# EAGLE library part LTC6268 (library CostumHafiz)
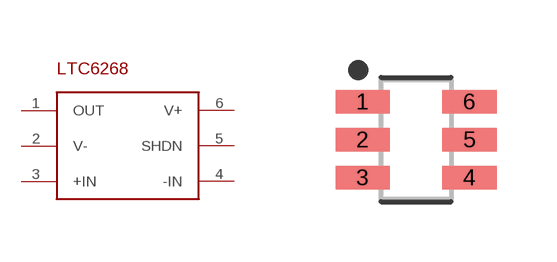
[diagram p0: symbol with the pads of SOT95P280X100-6; footprint SOT95P280X100-6]

Designator prefix -

## LTC6268  [SOT95P280X100-6]
1  OUT
2  V-
3  +IN
4  -IN
5  SHDN
6  V+

## Footprint SOT95P280X100-6 (pad centres in mm)
6-SOT23, 0.95 mm pitch, 2.80 mm span, 2.90 X 1.63 X 1.00 mm body 6-pin SOT23 package with 0.95 mm pitch, 2.80 mm span with body size 2.90 X 1.63 X 1.00 mm
smd 1.36 x 0.587: 1 -1.335,0.95; 2 -1.335,0; 3 -1.335,-0.95; 4 1.335,-0.95; 5 1.335,0; 6 1.335,0.95